# Altium schematic symbol library SW_SPST_2C_3NO.SchLib: 1 symbol
Pins are listed as number, name and electrical type; pins without a type are passive.

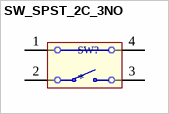
[diagram p0: symbol SW_SPST_2C_3NO]

## SW_SPST_2C_3NO
designator SW?
pins: 1, 2, 3, 4